# Altium schematic symbol library CAP 22uF 10V.Schlib: 1 symbol
Pins are listed as number, name and electrical type; pins without a type are passive.

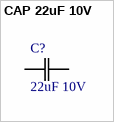
[diagram p0: symbol CAP 22uF 10V]

## CAP 22uF 10V
designator C?, comment 22uF 10V
CAP CER 2.2UF 10V X5R 0805
pins: 1 C1, 2 C2